# Altium schematic symbol library Connector-Library.SchLib: 14 symbols (part 1 of 2)
Pins are listed as number, name and electrical type; pins without a type are passive.

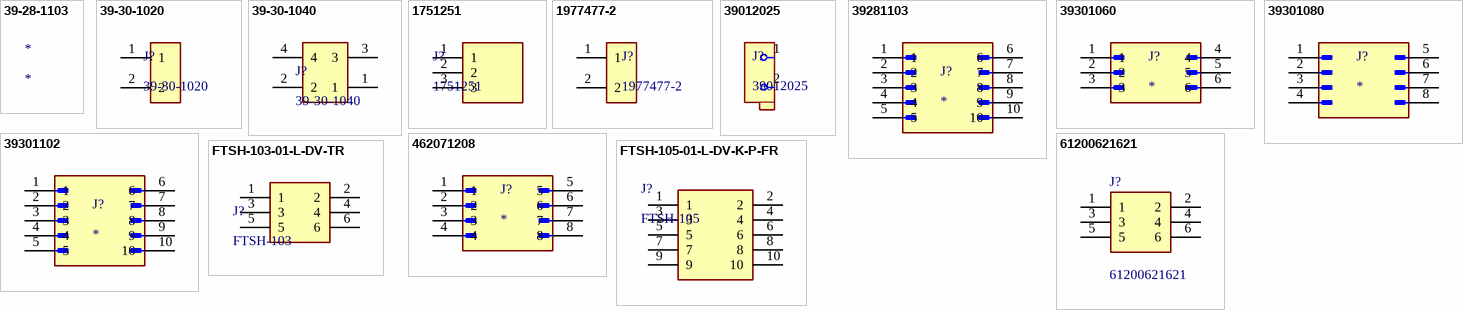
[diagram p0: symbols 39-28-1103 to FTSH-105-01-L-DV-K-P-FR]

## 39-28-1103
designator *
MOLEX 39-28-1103 Header 2 Row 180° w/o PCB Lock 10p 94V-2 Tin Plating w/o Drain Holes; Manufacturer Lifecycle Status: ACTIVE; Approvals: CSA, TUV, UL; Connector Type: Power, Rectangular; Contact Resistance: 10mΩ; Current Rating: 7A; Dielectric Material: Polyamide; Gender: Male; Glow Wire Compliant: Non-compliant; Insulation Resistance: 1GΩ; Max Current Rating: 3A; Max Voltage Rating (DC): 600.6kV; Number of Circuits: 8; Number of Contacts: 10; Operating Force: 6.672N; Pitch: 4.2mm; Plating Thickness: 889nm; Row Spacing: 5.5118mm; Voltage Rating: 600V; Working Voltage: 250V; Supplier: RS; Supplier Part Number: 4841928P; Manufacturer: Molex; Manufacturer Part Number: 39-28-1103; RoHS: Compliant; Category: Headers and Wire Housings; Stock: 2889; China RoHS: Compliant; Color: Natural, Clear; Contact Gender: Male; Contact Material: Brass; Contact Plating: Tin; Country of Origin: PR; Depth: 9.39mm; Flammability Rating: UL94 V-2; Halogen Free: Low Halogen; Height: 13.1mm; Housing Material: Nylon; Lead Free: Lead Free; Lead Pitch: 4.2mm; Length: 101.19mm; Lifecycle Status: Production; Max Operating Temperature: 105°C; Min Operating Temperature: -40°C; Mounting Technology: Through Hole; Pins: 10; Number of Poles: 10; Number of Positions: 10; Number of Rows: 2; Orientation: Vertical; Packaging: Bulk; Plating: Tin; Radiation Hardening: No; REACH SVHC: Yes; Schedule B: 8536694040, 8536694040|8536694040|8536694040|8536694040|8536694040; Terminal Pitch: 4.191mm; Termination: Solder; Voltage Rating (AC): 600V; Voltage Rating (DC): 600V; ComponentLink1URL: https://datasheet.octopart.com:443/0039281103-Molex-datasheet-180777537.pdf?src-supplier=IHS; ComponentLink1Description: https://datasheet.octopart.com:443/0039281103-Molex-datasheet-180777537.pdf?src-supplier=IHS; ComponentLink2URL: https://datasheet.octopart.com:443/39-28-1103-Molex-datasheet-120074126.pdf?src-supplier=IHS; ComponentLink2Description: https://datasheet.octopart.com:443/39-28-1103-Molex-datasheet-120074126.pdf?src-supplier=IHS; ComponentLink3URL: https://datasheet.octopart.com:443/39-28-1103-Molex-datasheet-11519118.pdf?src-supplier=Molex; ComponentLink3Description: https://datasheet.octopart.com:443/39-28-1103-Molex-datasheet-11519118.pdf?src-supplier=Molex; ComponentLink4URL: https://datasheet.octopart.com:443/039281103-Molex-datasheet-8335264.pdf?src-supplier=Upverter; ComponentLink4Description: https://datasheet.octopart.com:443/039281103-Molex-datasheet-8335264.pdf?src-supplier=Upverter; ComponentLink5URL: https://datasheet.octopart.com:443/39-28-1103-Molex-datasheet-13784987.pdf?src-supplier=Sager+Electronics; ComponentLink5Description: https://datasheet.octopart.com:443/39-28-1103-Molex-datasheet-13784987.pdf?src-supplier=Sager+Electronics; ComponentLink6URL: https://datasheet.octopart.com:443/39-28-1103-Molex-datasheet-154749138.pdf?src-supplier=Master+Electronics; ComponentLink6Description: https://datasheet.octopart.com:443/39-28-1103-Molex-datasheet-154749138.pdf?src-supplier=Master+Electronics; ComponentLink7URL: https://datasheet.octopart.com:443/39-28-1103-Molex-datasheet-101582338.pdf?src-supplier=Farnell; ComponentLink7Description: https://datasheet.octopart.com:443/39-28-1103-Molex-datasheet-101582338.pdf?src-supplier=Farnell; ComponentLink8URL: https://datasheet.octopart.com:443/39-28-1103-Molex-datasheet-8486522.pdf?src-supplier=Farnell; ComponentLink8Description: https://datasheet.octopart.com:443/39-28-1103-Molex-datasheet-8486522.pdf?src-supplier=Farnell; ComponentLink9URL: https://datasheet.octopart.com:443/39-28-1103-Molex-datasheet-7626255.pdf?src-supplier=Farnell; ComponentLink9Description: https://datasheet.octopart.com:443/39-28-1103-Molex-datasheet-7626255.pdf?src-supplier=Farnell; ComponentLink10URL: https://datasheet.octopart.com:443/39-28-1103-Molex-datasheet-33002772.pdf?src-supplier=Electro+Sonic; ComponentLink10Description: https://datasheet.octopart.com:443/39-28-1103-Molex-datasheet-33002772.pdf?src-supplier=Electro+Sonic; ComponentLink11URL: https://datasheet.octopart.com:443/39-28-1103-Molex-datasheet-62104106.pdf?src-supplier=Electro+Sonic; ComponentLink11Description: https://datasheet.octopart.com:443/39-28-1103-Molex-datasheet-62104106.pdf?src-supplier=Electro+Sonic; ComponentLink12URL: https://datasheet.octopart.com:443/39-28-1103-Molex-datasheet-27885732.pdf?src-supplier=Electro+Sonic; ComponentLink12Description: https://datasheet.octopart.com:443/39-28-1103-Molex-datasheet-27885732.pdf?src-supplier=Electro+Sonic; ComponentLink13URL: https://datasheet.octopart.com:443/39-28-1103-Molex-datasheet-11879267.pdf?src-supplier=Arrow+Electronics; ComponentLink13Description: https://datasheet.octopart.com:443/39-28-1103-Molex-datasheet-11879267.pdf?src-supplier=Arrow+Electronics; ComponentLink14URL: https://datasheet.octopart.com:443/39-28-1103-Molex-datasheet-140182983.pdf?src-supplier=RS+(Formerly+Allied+Electronics); ComponentLink14Description: https://datasheet.octopart.com:443/39-28-1103-Molex-datasheet-140182983.pdf?src-supplier=RS+(Formerly+Allied+Electronics); ComponentLink15URL: https://datasheet.octopart.com:443/39-28-1103-Molex-datasheet-120148484.pdf?src-supplier=RS+(Formerly+Allied+Electronics); ComponentLink15Description: https://datasheet.octopart.com:443/39-28-1103-Molex-datasheet-120148484.pdf?src-supplier=RS+(Formerly+Allied+Electronics); ComponentLink16URL: https://datasheet.octopart.com:443/39-28-1103-Molex-datasheet-27709973.pdf?src-supplier=RS+(Formerly+Allied+Electronics); ComponentLink16Description: https://datasheet.octopart.com:443/39-28-1103-Molex-datasheet-27709973.pdf?src-supplier=RS+(Formerly+Allied+Electronics); ComponentLink17URL: https://datasheet.octopart.com:443/39-28-1103-Molex-datasheet-9805467.pdf?src-supplier=RS+(Formerly+Allied+Electronics); ComponentLink17Description: https://datasheet.octopart.com:443/39-28-1103-Molex-datasheet-9805467.pdf?src-supplier=RS+(Formerly+Allied+Electronics); ComponentLink18URL: https://datasheet.octopart.com:443/39-28-1103-Molex-datasheet-82184.pdf?src-supplier=RS+(Formerly+Allied+Electronics); ComponentLink18Description: https://datasheet.octopart.com:443/39-28-1103-Molex-datasheet-82184.pdf?src-supplier=RS+(Formerly+Allied+Electronics); ComponentLink19URL: https://datasheet.octopart.com:443/39-28-1103-Molex-datasheet-156091070.pdf?src-supplier=Jameco; ComponentLink19Description: https://datasheet.octopart.com:443/39-28-1103-Molex-datasheet-156091070.pdf?src-supplier=Jameco; ComponentLink20URL: https://datasheet.octopart.com:443/39281103-Molex-datasheet-7831096.pdf?src-supplier=Jameco; ComponentLink20Description: https://datasheet.octopart.com:443/39281103-Molex-datasheet-7831096.pdf?src-supplier=Jameco; ComponentLink21URL: https://datasheet.octopart.com:443/39281103-Molex-datasheet-137316104.pdf?src-supplier=Future+Electronics; ComponentLink21Description: https://datasheet.octopart.com:443/39281103-Molex-datasheet-137316104.pdf?src-supplier=Future+Electronics; ComponentLink22URL: https://datasheet.octopart.com:443/39-28-1103-Molex-datasheet-38190430.pdf?src-supplier=Newark; ComponentLink22Description: https://datasheet.octopart.com:443/39-28-1103-Molex-datasheet-38190430.pdf?src-supplier=Newark; ComponentLink23URL: https://datasheet.octopart.com:443/39-28-1103-Molex-datasheet-21207353.pdf?src-supplier=Newark; ComponentLink23Description: https://datasheet.octopart.com:443/39-28-1103-Molex-datasheet-21207353.pdf?src-supplier=Newark; ComponentLink24URL: https://datasheet.octopart.com:443/39-28-1103-Molex-datasheet-1603.pdf?src-supplier=Newark; ComponentLink24Description: https://datasheet.octopart.com:443/39-28-1103-Molex-datasheet-1603.pdf?src-supplier=Newark; ComponentLink25URL: https://datasheet.octopart.com:443/39-28-1103-Molex-datasheet-10064021.pdf?src-supplier=element14; ComponentLink25Description: https://datasheet.octopart.com:443/39-28-1103-Molex-datasheet-10064021.pdf?src-supplier=element14; ComponentLink26URL: https://datasheet.octopart.com:443/39-28-1103-Molex-datasheet-141243.pdf?src-supplier=DigiKey; ComponentLink26Description: https://datasheet.octopart.com:443/39-28-1103-Molex-datasheet-141243.pdf?src-supplier=DigiKey; ComponentLink27URL: https://datasheet.octopart.com:443/39-28-1103-Molex-datasheet-18519.pdf?src-supplier=TME; ComponentLink27Description: https://datasheet.octopart.com:443/39-28-1103-Molex-datasheet-18519.pdf?src-supplier=TME; ComponentLink28URL: http://sigma.octopart.com:80/16310472/rohs_statement/Molex-39-28-1103.pdf?src-supplier=Compliance+Statements; ComponentLink28Description: http://sigma.octopart.com:80/16310472/rohs_statement/Molex-39-28-1103.pdf?src-supplier=Compliance+Statements; ComponentLink29URL: http://sigma.octopart.com:80/conflict_mineral_statement/Molex-company-72.pdf?src-supplier=Compliance+Statements; ComponentLink29Description: http://sigma.octopart.com:80/conflict_mineral_statement/Molex-company-72.pdf?src-supplier=Compliance+Statements; ComponentLink30URL: http://sigma.octopart.com:80/rohs_statement/Molex-company-73.pdf?src-supplier=Compliance+Statements; ComponentLink30Description: http://sigma.octopart.com:80/rohs_statement/Molex-company-73.pdf?src-supplier=Compliance+Statements; ComponentLink31URL: http://sigma.octopart.com:80/reach_statement/Molex-company-74.pdf?src-supplier=Compliance+Statements; ComponentLink31Description: http://sigma.octopart.com:80/reach_statement/Molex-company-74.pdf?src-supplier=Compliance+Statements

## 39-30-1020
designator J?
Pin Header, Power, 2 Rows, 2 Contacts, Through Hole Right Angle, Mini-Fit Jr. 5569; Manufacturer: Molex; Manufacturer Lifecycle Status: ACTIVE; Approvals: CSA, TUV, UL; Connector Type: Power, Rectangular; Contact Resistance: 10mΩ; Current Rating: 9A; Dielectric Material: Polyamide; Gender: Male; Glow Wire Compliant: Non-compliant; Insulation Resistance: 1GΩ; Number of Circuits: 2; Pitch: 4.2mm; Plating Thickness: 2.54µm; Voltage Rating: 600V; Supplier: RS; Supplier Part Number: 5109837P; Manufacturer Part Number: 39-30-1020; RoHS: Compliant; Category: Headers and Wire Housings; Stock: 13118; China RoHS: Compliant; Color: Natural; Contact Gender: Male; Contact Material: Brass; Contact Plating: Tin; Country of Origin: US; Depth: 13.38mm; ELV: Compliant; Flammability Rating: UL94 V-2; Halogen Free: Low Halogen; Height: 14.76mm; Housing Material: Nylon; Lead Free: Lead Free; Lead Pitch: 4.2mm; Length: 36.07mm; Lifecycle Status: Production; Material: Nylon; Max Operating Temperature: 105°C; Min Operating Temperature: -40°C; Mounting Technology: PCB, Through Hole; Number of Contacts: 2; Pins: 2; Number of Poles: 2; Number of Positions: 2; Number of Rows: 2; Orientation: Right Angle; Radiation Hardening: No; REACH SVHC: Yes; Row Spacing: 4.2mm; Schedule B: 8536694040, 8536694040|8536694040, 8536694040|8536694040|8536694040, 8536694040|8536694040|8536694040|8536694040; Termination: Solder; Voltage Rating (AC): 600V; Voltage Rating (DC): 600V; Working Voltage: 600V; ComponentLink1URL: https://datasheet.octopart.com:443/39-30-1020-Molex-datasheet-120074128.pdf?src-supplier=IHS; ComponentLink1Description: https://datasheet.octopart.com:443/39-30-1020-Molex-datasheet-120074128.pdf?src-supplier=IHS; ComponentLink2URL: https://datasheet.octopart.com:443/039301020-Molex-datasheet-8338717.pdf?src-supplier=Upverter; ComponentLink2Description: https://datasheet.octopart.com:443/039301020-Molex-datasheet-8338717.pdf?src-supplier=Upverter; ComponentLink3URL: https://datasheet.octopart.com:443/39-30-1020-Molex-datasheet-13785309.pdf?src-supplier=Molex; ComponentLink3Description: https://datasheet.octopart.com:443/39-30-1020-Molex-datasheet-13785309.pdf?src-supplier=Molex; ComponentLink4URL: https://sigma.octopart.com:443/15644801/technical_drawing/Molex-39-30-1020.pdf?src-supplier=Molex; ComponentLink4Description: https://sigma.octopart.com:443/15644801/technical_drawing/Molex-39-30-1020.pdf?src-supplier=Molex; ComponentLink5URL: https://datasheet.octopart.com:443/39-30-1020-Molex-datasheet-36854730.pdf?src-supplier=Farnell; ComponentLink5Description: https://datasheet.octopart.com:443/39-30-1020-Molex-datasheet-36854730.pdf?src-supplier=Farnell; ComponentLink6URL: https://datasheet.octopart.com:443/39-30-1020-Molex-datasheet-101582405.pdf?src-supplier=Farnell; ComponentLink6Description: https://datasheet.octopart.com:443/39-30-1020-Molex-datasheet-101582405.pdf?src-supplier=Farnell; ComponentLink7URL: https://datasheet.octopart.com:443/39-30-1020-..-Molex-datasheet-81470918.pdf?src-supplier=Farnell; ComponentLink7Description: https://datasheet.octopart.com:443/39-30-1020-..-Molex-datasheet-81470918.pdf?src-supplier=Farnell; ComponentLink8URL: https://datasheet.octopart.com:443/39-30-1020-Molex-datasheet-14711183.pdf?src-supplier=Farnell; ComponentLink8Description: https://datasheet.octopart.com:443/39-30-1020-Molex-datasheet-14711183.pdf?src-supplier=Farnell; ComponentLink9URL: https://datasheet.octopart.com:443/39-30-1020-Molex-datasheet-10541087.pdf?src-supplier=Farnell; ComponentLink9Description: https://datasheet.octopart.com:443/39-30-1020-Molex-datasheet-10541087.pdf?src-supplier=Farnell; ComponentLink10URL: https://datasheet.octopart.com:443/39301020-Molex-datasheet-514359.pdf?src-supplier=Farnell; ComponentLink10Description: https://datasheet.octopart.com:443/39301020-Molex-datasheet-514359.pdf?src-supplier=Farnell; ComponentLink11URL: https://datasheet.octopart.com:443/39-30-1020-Molex-datasheet-154749331.pdf?src-supplier=Master+Electronics; ComponentLink11Description: https://datasheet.octopart.com:443/39-30-1020-Molex-datasheet-154749331.pdf?src-supplier=Master+Electronics; ComponentLink12URL: https://datasheet.octopart.com:443/39-30-1020-Molex-datasheet-21827347.pdf?src-supplier=Electro+Sonic; ComponentLink12Description: https://datasheet.octopart.com:443/39-30-1020-Molex-datasheet-21827347.pdf?src-supplier=Electro+Sonic; ComponentLink13URL: https://datasheet.octopart.com:443/39-30-1020-Molex-datasheet-62104194.pdf?src-supplier=Electro+Sonic; ComponentLink13Description: https://datasheet.octopart.com:443/39-30-1020-Molex-datasheet-62104194.pdf?src-supplier=Electro+Sonic; ComponentLink14URL: https://datasheet.octopart.com:443/39-30-1020-Molex-datasheet-140183168.pdf?src-supplier=RS+(Formerly+Allied+Electronics); ComponentLink14Description: https://datasheet.octopart.com:443/39-30-1020-Molex-datasheet-140183168.pdf?src-supplier=RS+(Formerly+Allied+Electronics); ComponentLink15URL: https://datasheet.octopart.com:443/39-30-1020-Molex-datasheet-120148721.pdf?src-supplier=RS+(Formerly+Allied+Electronics); ComponentLink15Description: https://datasheet.octopart.com:443/39-30-1020-Molex-datasheet-120148721.pdf?src-supplier=RS+(Formerly+Allied+Electronics); ComponentLink16URL: https://datasheet.octopart.com:443/39-30-1020-Molex-datasheet-34442213.pdf?src-supplier=RS+(Formerly+Allied+Electronics); ComponentLink16Description: https://datasheet.octopart.com:443/39-30-1020-Molex-datasheet-34442213.pdf?src-supplier=RS+(Formerly+Allied+Electronics); ComponentLink17URL: https://datasheet.octopart.com:443/39-30-1020-Molex-datasheet-9997016.pdf?src-supplier=RS+(Formerly+Allied+Electronics); ComponentLink17Description: https://datasheet.octopart.com:443/39-30-1020-Molex-datasheet-9997016.pdf?src-supplier=RS+(Formerly+Allied+Electronics); ComponentLink18URL: https://datasheet.octopart.com:443/39-30-1020-Molex-datasheet-46140.pdf?src-supplier=RS+(Formerly+Allied+Electronics); ComponentLink18Description: https://datasheet.octopart.com:443/39-30-1020-Molex-datasheet-46140.pdf?src-supplier=RS+(Formerly+Allied+Electronics); ComponentLink19URL: https://datasheet.octopart.com:443/39301020-Molex-datasheet-82994803.pdf?src-supplier=Newark; ComponentLink19Description: https://datasheet.octopart.com:443/39301020-Molex-datasheet-82994803.pdf?src-supplier=Newark; ComponentLink20URL: https://datasheet.octopart.com:443/39-30-1020-Molex-datasheet-33002868.pdf?src-supplier=Newark; ComponentLink20Description: https://datasheet.octopart.com:443/39-30-1020-Molex-datasheet-33002868.pdf?src-supplier=Newark; ComponentLink21URL: https://datasheet.octopart.com:443/39-30-1020-Molex-datasheet-21207481.pdf?src-supplier=Newark; ComponentLink21Description: https://datasheet.octopart.com:443/39-30-1020-Molex-datasheet-21207481.pdf?src-supplier=Newark; ComponentLink22URL: https://datasheet.octopart.com:443/39-30-1020-Molex-datasheet-2405.pdf?src-supplier=Newark; ComponentLink22Description: https://datasheet.octopart.com:443/39-30-1020-Molex-datasheet-2405.pdf?src-supplier=Newark; ComponentLink23URL: https://datasheet.octopart.com:443/39301020-Molex-datasheet-137316104.pdf?src-supplier=Future+Electronics; ComponentLink23Description: https://datasheet.octopart.com:443/39301020-Molex-datasheet-137316104.pdf?src-supplier=Future+Electronics; ComponentLink24URL: https://datasheet.octopart.com:443/39-30-1020-Molex-datasheet-21395541.pdf?src-supplier=TME; ComponentLink24Description: https://datasheet.octopart.com:443/39-30-1020-Molex-datasheet-21395541.pdf?src-supplier=TME; ComponentLink25URL: https://datasheet.octopart.com:443/39301020-Molex-datasheet-7600579.pdf?src-supplier=Jameco; ComponentLink25Description: https://datasheet.octopart.com:443/39301020-Molex-datasheet-7600579.pdf?src-supplier=Jameco; ComponentLink26URL: https://datasheet.octopart.com:443/39-30-1020-Molex-datasheet-46912895.pdf?src-supplier=Jameco; ComponentLink26Description: https://datasheet.octopart.com:443/39-30-1020-Molex-datasheet-46912895.pdf?src-supplier=Jameco; ComponentLink27URL: https://datasheet.octopart.com:443/39-30-1020-Molex-datasheet-131607.pdf?src-supplier=DigiKey; ComponentLink27Description: https://datasheet.octopart.com:443/39-30-1020-Molex-datasheet-131607.pdf?src-supplier=DigiKey; ComponentLink28URL: http://sigma.octopart.com:80/15645372/rohs_certificate/Molex-39-30-1020.pdf?src-supplier=Compliance+Statements; ComponentLink28Description: http://sigma.octopart.com:80/15645372/rohs_certificate/Molex-39-30-1020.pdf?src-supplier=Compliance+Statements; ComponentLink29URL: http://sigma.octopart.com:80/conflict_mineral_statement/Molex-company-72.pdf?src-supplier=Compliance+Statements; ComponentLink29Description: http://sigma.octopart.com:80/conflict_mineral_statement/Molex-company-72.pdf?src-supplier=Compliance+Statements; ComponentLink30URL: http://sigma.octopart.com:80/rohs_statement/Molex-company-73.pdf?src-supplier=Compliance+Statements; ComponentLink30Description: http://sigma.octopart.com:80/rohs_statement/Molex-company-73.pdf?src-supplier=Compliance+Statements; ComponentLink31URL: http://sigma.octopart.com:80/reach_statement/Molex-company-74.pdf?src-supplier=Compliance+Statements; ComponentLink31Description: http://sigma.octopart.com:80/reach_statement/Molex-company-74.pdf?src-supplier=Compliance+Statements
footprint 39-30-1020 (Footprint not found)
pins: 1, 2

## 39-30-1040
designator J?
Molex Connector 2x2 4.2mm Solder Right Angle Thru-Hole Tray; Manufacturer Lifecycle Status: ACTIVE; Approvals: CSA, TUV, UL; Connector Type: Power, Rectangular; Contact Resistance: 10mΩ; Current Rating: 9A; Gender: Male; Glow Wire Compliant: Non-compliant; Insulation Resistance: 1GΩ; Number of Circuits: 3; Number of Contacts: 4; Plating Thickness: 2.54µm; Ratings: CSA, TUV; Voltage Rating: 600V; Supplier: DigiKey; Supplier Part Number: WM1352-ND; Manufacturer: Molex; Manufacturer Part Number: 39-30-1040; RoHS: Compliant; Category: Headers and Wire Housings; Stock: 5632; Pricing: 1=0,85, 10=0,72, 100=0,6122, 500=0,54636, 4000=0,47179, 8000=0,44928, 12000=0,43662 (USD); China RoHS: Compliant; Color: Natural; Contact Gender: Male; Contact Material: Brass; Contact Plating: Tin; Country of Origin: US; Depth: 19.79mm; Export Control Classification Number (ECCN) Code: EAR99; ELV: Compliant; Flammability Rating: UL94 V-2; Halogen Free: Low Halogen; Height: 13.38mm; Housing Material: Nylon; Harmonized Tariff Schedule (HTS) Code: 8536.69.40.30; Introduction Date: 1994-12-01; Lead Free: Lead Free; Lead Pitch: 4.2mm; Length: 21.08mm; Lifecycle Status: Production; Material: Nylon; Max Operating Temperature: 105°C; Min Operating Temperature: -40°C; Mounting Technology: PCB, Through Hole; Pins: 5; Number of Poles: 4; Number of Positions: 4; Number of Rows: 1; Orientation: Right Angle, Vertical; Packaging: Bulk; Pitch: 4.2mm; Radiation Hardening: No; REACH SVHC: Yes; Row Spacing: 4.2mm; Schedule B: 8536694040, 8536694040|8536694040, 8536694040|8536694040|8536694040, 8536694040|8536694040|8536694040|8536694040; Termination: Solder; Voltage Rating (AC): 600V; Voltage Rating (DC): 600V; Working Voltage: 600V; ComponentLink1URL: https://datasheet.octopart.com:443/39-30-1040-Molex-datasheet-138897372.pdf?src-supplier=Upverter; ComponentLink1Description: https://datasheet.octopart.com:443/39-30-1040-Molex-datasheet-138897372.pdf?src-supplier=Upverter; ComponentLink2URL: https://datasheet.octopart.com:443/039301040-Molex-datasheet-8338717.pdf?src-supplier=Upverter; ComponentLink2Description: https://datasheet.octopart.com:443/039301040-Molex-datasheet-8338717.pdf?src-supplier=Upverter; ComponentLink3URL: https://sigma.octopart.com:443/120074128/technical_drawing/Molex-39-30-1040.pdf?src-supplier=IHS; ComponentLink3Description: https://sigma.octopart.com:443/120074128/technical_drawing/Molex-39-30-1040.pdf?src-supplier=IHS; ComponentLink4URL: https://datasheet.octopart.com:443/39-30-1040-Molex-datasheet-12525736.pdf?src-supplier=Molex; ComponentLink4Description: https://datasheet.octopart.com:443/39-30-1040-Molex-datasheet-12525736.pdf?src-supplier=Molex; ComponentLink5URL: https://sigma.octopart.com:443/15644801/technical_drawing/Molex-39-30-1040.pdf?src-supplier=Molex; ComponentLink5Description: https://sigma.octopart.com:443/15644801/technical_drawing/Molex-39-30-1040.pdf?src-supplier=Molex; ComponentLink6URL: https://datasheet.octopart.com:443/39-30-1040-Molex-datasheet-193097287.pdf?src-supplier=JRH+Electronics; ComponentLink6Description: https://datasheet.octopart.com:443/39-30-1040-Molex-datasheet-193097287.pdf?src-supplier=JRH+Electronics; ComponentLink7URL: https://datasheet.octopart.com:443/39-30-1040-Molex-datasheet-154749335.pdf?src-supplier=Master+Electronics; ComponentLink7Description: https://datasheet.octopart.com:443/39-30-1040-Molex-datasheet-154749335.pdf?src-supplier=Master+Electronics; ComponentLink8URL: https://datasheet.octopart.com:443/39-30-1040-Molex-datasheet-101582408.pdf?src-supplier=Farnell; ComponentLink8Description: https://datasheet.octopart.com:443/39-30-1040-Molex-datasheet-101582408.pdf?src-supplier=Farnell; ComponentLink9URL: https://datasheet.octopart.com:443/39-30-1040-Molex-datasheet-13726788.pdf?src-supplier=Farnell; ComponentLink9Description: https://datasheet.octopart.com:443/39-30-1040-Molex-datasheet-13726788.pdf?src-supplier=Farnell; ComponentLink10URL: https://datasheet.octopart.com:443/39-30-1040-Molex-datasheet-8451564.pdf?src-supplier=Farnell; ComponentLink10Description: https://datasheet.octopart.com:443/39-30-1040-Molex-datasheet-8451564.pdf?src-supplier=Farnell; ComponentLink11URL: https://datasheet.octopart.com:443/39-30-1040-Molex-datasheet-8377082.pdf?src-supplier=Farnell; ComponentLink11Description: https://datasheet.octopart.com:443/39-30-1040-Molex-datasheet-8377082.pdf?src-supplier=Farnell; ComponentLink12URL: https://datasheet.octopart.com:443/39-30-1040-Molex-datasheet-8338264.pdf?src-supplier=Farnell; ComponentLink12Description: https://datasheet.octopart.com:443/39-30-1040-Molex-datasheet-8338264.pdf?src-supplier=Farnell; ComponentLink13URL: https://datasheet.octopart.com:443/39-30-1040-Molex-datasheet-21539009.pdf?src-supplier=Electro+Sonic; ComponentLink13Description: https://datasheet.octopart.com:443/39-30-1040-Molex-datasheet-21539009.pdf?src-supplier=Electro+Sonic; ComponentLink14URL: https://datasheet.octopart.com:443/39-30-1040-Molex-datasheet-62104196.pdf?src-supplier=Electro+Sonic; ComponentLink14Description: https://datasheet.octopart.com:443/39-30-1040-Molex-datasheet-62104196.pdf?src-supplier=Electro+Sonic; ComponentLink15URL: https://datasheet.octopart.com:443/39-30-1040-Molex-datasheet-37170052.pdf?src-supplier=Electro+Sonic; ComponentLink15Description: https://datasheet.octopart.com:443/39-30-1040-Molex-datasheet-37170052.pdf?src-supplier=Electro+Sonic; ComponentLink16URL: https://datasheet.octopart.com:443/39-30-1040-Molex-datasheet-140183172.pdf?src-supplier=RS+(Formerly+Allied+Electronics); ComponentLink16Description: https://datasheet.octopart.com:443/39-30-1040-Molex-datasheet-140183172.pdf?src-supplier=RS+(Formerly+Allied+Electronics); ComponentLink17URL: https://datasheet.octopart.com:443/39-30-1040-Molex-datasheet-120148725.pdf?src-supplier=RS+(Formerly+Allied+Electronics); ComponentLink17Description: https://datasheet.octopart.com:443/39-30-1040-Molex-datasheet-120148725.pdf?src-supplier=RS+(Formerly+Allied+Electronics); ComponentLink18URL: https://datasheet.octopart.com:443/39-30-1040-Molex-datasheet-34442213.pdf?src-supplier=RS+(Formerly+Allied+Electronics); ComponentLink18Description: https://datasheet.octopart.com:443/39-30-1040-Molex-datasheet-34442213.pdf?src-supplier=RS+(Formerly+Allied+Electronics); ComponentLink19URL: https://datasheet.octopart.com:443/39-30-1040-Molex-datasheet-9746676.pdf?src-supplier=RS+(Formerly+Allied+Electronics); ComponentLink19Description: https://datasheet.octopart.com:443/39-30-1040-Molex-datasheet-9746676.pdf?src-supplier=RS+(Formerly+Allied+Electronics); ComponentLink20URL: https://datasheet.octopart.com:443/39-30-1040-Molex-datasheet-156091076.pdf?src-supplier=Jameco; ComponentLink20Description: https://datasheet.octopart.com:443/39-30-1040-Molex-datasheet-156091076.pdf?src-supplier=Jameco; ComponentLink21URL: https://datasheet.octopart.com:443/39301040-Molex-datasheet-7831653.pdf?src-supplier=Jameco; ComponentLink21Description: https://datasheet.octopart.com:443/39301040-Molex-datasheet-7831653.pdf?src-supplier=Jameco; ComponentLink22URL: https://datasheet.octopart.com:443/39-30-1040-Molex-datasheet-7265007.pdf?src-supplier=Jameco; ComponentLink22Description: https://datasheet.octopart.com:443/39-30-1040-Molex-datasheet-7265007.pdf?src-supplier=Jameco; ComponentLink23URL: https://datasheet.octopart.com:443/39-30-1040-Molex-datasheet-33002872.pdf?src-supplier=Newark; ComponentLink23Description: https://datasheet.octopart.com:443/39-30-1040-Molex-datasheet-33002872.pdf?src-supplier=Newark; ComponentLink24URL: https://datasheet.octopart.com:443/39-30-1040-Molex-datasheet-21207484.pdf?src-supplier=Newark; ComponentLink24Description: https://datasheet.octopart.com:443/39-30-1040-Molex-datasheet-21207484.pdf?src-supplier=Newark; ComponentLink25URL: https://datasheet.octopart.com:443/39-30-1040-Molex-datasheet-2405.pdf?src-supplier=Newark; ComponentLink25Description: https://datasheet.octopart.com:443/39-30-1040-Molex-datasheet-2405.pdf?src-supplier=Newark; ComponentLink26URL: https://datasheet.octopart.com:443/39-30-1040-Molex-datasheet-21395541.pdf?src-supplier=TME; ComponentLink26Description: https://datasheet.octopart.com:443/39-30-1040-Molex-datasheet-21395541.pdf?src-supplier=TME; ComponentLink27URL: https://datasheet.octopart.com:443/39-30-1040-Molex-datasheet-134310.pdf?src-supplier=DigiKey; ComponentLink27Description: https://datasheet.octopart.com:443/39-30-1040-Molex-datasheet-134310.pdf?src-supplier=DigiKey; ComponentLink28URL: http://sigma.octopart.com:80/15645375/rohs_certificate/Molex-39-30-1040.pdf?src-supplier=Compliance+Statements; ComponentLink28Description: http://sigma.octopart.com:80/15645375/rohs_certificate/Molex-39-30-1040.pdf?src-supplier=Compliance+Statements; ComponentLink29URL: http://sigma.octopart.com:80/reach_statement/Molex-company-74.pdf?src-supplier=Compliance+Statements; ComponentLink29Description: http://sigma.octopart.com:80/reach_statement/Molex-company-74.pdf?src-supplier=Compliance+Statements; ComponentLink30URL: http://sigma.octopart.com:80/rohs_statement/Molex-company-73.pdf?src-supplier=Compliance+Statements; ComponentLink30Description: http://sigma.octopart.com:80/rohs_statement/Molex-company-73.pdf?src-supplier=Compliance+Statements; ComponentLink31URL: http://sigma.octopart.com:80/conflict_mineral_statement/Molex-company-72.pdf?src-supplier=Compliance+Statements; ComponentLink31Description: http://sigma.octopart.com:80/conflict_mineral_statement/Molex-company-72.pdf?src-supplier=Compliance+Statements
footprint 39-30-1040
pins: 1, 2, 3, 4

## 1751251
designator J?
Barrier Strip Terminal Block, 10A, 1mm2, 1 Row(s), 1 Deck(s); Manufacturer: Phoenix Contact; Fastening Method: SCREW; Number of Decks: 1; Number of Ways: 3; Voltage Rating: 160V; Wire/Cable Gauge: 16AWG; Safety Approval: UL; Supplier: Rs; Supplier Part Number: 8024843; Manufacturer Part Number: 1751251; RoHS: Yes; Category: Terminal Blocks; Stock: 716; Mounting Technology: Board; Number of Rows: 1; Current Rating: 10A; Terminal and Terminal Block Type: BARRIER STRIP TERMINAL BLOCK; Wire Cross Section: 1mm2; RoHS Compliant: Yes; Reach SVHC Compliant: Yes; ComponentLink1URL: https://www.phoenixcontact.com:443/online/portal/us?uri=pxc-oc-itemdetail%3apid%3d1751251&library=usen&pcck=P-11-01-05&tab=1&src-supplier=IHS+Markit; ComponentLink1Description: https://www.phoenixcontact.com:443/online/portal/us?uri=pxc-oc-itemdetail%3apid%3d1751251&library=usen&pcck=P-11-01-05&tab=1&src-supplier=IHS+Markit; ComponentLink2URL: https://datasheet.ciiva.com/16046/1751251-16046279.pdf?src-supplier=Onlinecomponents.com; ComponentLink2Description: https://datasheet.ciiva.com/16046/1751251-16046279.pdf?src-supplier=Onlinecomponents.com; ComponentLink3URL: https://datasheet.ciiva.com/6745/1751251-6745524.pdf?src-supplier=Digikey; ComponentLink3Description: https://datasheet.ciiva.com/6745/1751251-6745524.pdf?src-supplier=Digikey; ComponentLink4URL: https://datasheet.ciiva.com/29226/774163-da-01-en-printklemme-1751251-250-st-29226773.pdf?src-supplier=Conrad; ComponentLink4Description: https://datasheet.ciiva.com/29226/774163-da-01-en-printklemme-1751251-250-st-29226773.pdf?src-supplier=Conrad
footprint 1751251
pins: 1, 2, 3

## 1977477-2
designator J?
Barrier Screw Terminal Block; Manufacturer: TE Connectivity; Supplier: Farnell; Supplier Part Number: 4427801; Manufacturer Part Number: 1977477-2; RoHS: Yes; Category: Terminal Blocks; Stock: 392; Manufacturer Series: 1977477; Terminal and Terminal Block Type: BARRIER STRIP TERMINAL BLOCK; Reach SVHC Compliant: Yes; RoHS Compliant: Yes; ComponentLink1URL: https://www.te.com:443/usa-en/product-1977477-2.html?src-supplier=IHS+Markit; ComponentLink1Description: https://www.te.com:443/usa-en/product-1977477-2.html?src-supplier=IHS+Markit; ComponentLink2URL: https://datasheet.ciiva.com/776/eng-cd-1977477-b1-776573.pdf?src-supplier=Digikey; ComponentLink2Description: https://datasheet.ciiva.com/776/eng-cd-1977477-b1-776573.pdf?src-supplier=Digikey
footprint 19774772
pins: 1, 2

## 39012025
designator J?  (graphical)
Molex Connector 2x1 (bump form snap side); Supplier: Rs; Supplier Part Number: 6795763P; Manufacturer: Molex; Manufacturer Part Number: 39012025; RoHS: No; Stock: 32920; ComponentLink1URL: https://datasheet.octopart.com/39-01-2025-Molex-datasheet-10054641.pdf?src-supplier=TME; ComponentLink1Description: https://datasheet.octopart.com/39-01-2025-Molex-datasheet-10054641.pdf?src-supplier=TME
footprint 39012025
pins: 1, 2

## 39281103
designator J?
Connector Header Through Hole 10 position 0.165in (4.20mm); MP: 39281103; Value: *; Package: None; Price: None; Availability: Unavailable
footprint 39281103
pins: 1, 2, 3, 4, 5, 6, 7, 8, 9, 10

## 39301060
designator J?
Mini-Fit Jr. Through Hole PCB Header, Right Angle, 6 Contacts, 2 Rows, 4.2mm Pitch; Manufacturer: Molex; Manufacturer Lifecycle Status: ACTIVE; MP: 39301060; Approvals: CSA, TUV, UL; Connector Type: Power, Rectangular; Contact Resistance: 10mΩ; Current Rating: 8A; Gender: Male; Glow Wire Compliant: Non-compliant; Insulation Resistance: 1GΩ; Max Voltage Rating (AC): 600V; Number of Circuits: 4; Number of Contacts: 6; Number of Lines: 2; Plating Thickness: 2.54µm; Row Spacing: 5.5mm; Test Voltage: 1.5kV; Price: None; Value: *; Availability: Unavailable; Package: None; Supplier: RS; Supplier Part Number: 5109859P; Manufacturer Part Number: 39-30-1060; RoHS: Compliant; Category: Headers and Wire Housings; Stock: 3490; China RoHS: Compliant; Color: Natural; Contact Gender: Male; Contact Material: Brass; Contact Plating: Tin; Country of Origin: US; Depth: 12.8mm; ELV: Compliant; Flammability Rating: UL94 V-2; Halogen Free: Low Halogen; Height: 11.65mm; Housing Color: Natural; Housing Material: Nylon; Lead Free: Lead Free; Lead Pitch: 4.2mm; Length: 13.8mm; Lifecycle Status: Production; Material: Nylon; Max Current Rating: 8A; Max Operating Temperature: 105°C; Min Operating Temperature: -40°C; Mounting Technology: PCB, Through Hole; Pins: 6; Number of Poles: 6; Number of Positions: 6; Number of Rows: 1; Orientation: Right Angle, Vertical; Packaging: Bulk; Pitch: 4.2mm; Radiation Hardening: No; REACH SVHC: Yes; Schedule B: 8536694040, 8536694040|8536694040|8536694040|8536694040|8536694040|8536694040|8536694040|8536694040|8536694040|8536694040|8536694040|8536694040|8536694040|8536694040|8536694040|8536694040|8536694040|8536694040|8536694040|8536694040|8536694040|8536694040|8536694040|85; Termination: Solder; Voltage Rating: 600V; Voltage Rating (AC): 600V; Voltage Rating (DC): 600V; Working Voltage: 600V; ComponentLink1URL: https://datasheet.octopart.com:443/39-30-1060-Molex-datasheet-120074128.pdf?src-supplier=Farnell; ComponentLink1Description: https://datasheet.octopart.com:443/39-30-1060-Molex-datasheet-120074128.pdf?src-supplier=Farnell; ComponentLink2URL: https://datasheet.octopart.com:443/39-30-1060-Molex-datasheet-101582409.pdf?src-supplier=Farnell; ComponentLink2Description: https://datasheet.octopart.com:443/39-30-1060-Molex-datasheet-101582409.pdf?src-supplier=Farnell; ComponentLink3URL: https://datasheet.octopart.com:443/39-30-1060-Molex-datasheet-14359237.pdf?src-supplier=Farnell; ComponentLink3Description: https://datasheet.octopart.com:443/39-30-1060-Molex-datasheet-14359237.pdf?src-supplier=Farnell; ComponentLink4URL: https://datasheet.octopart.com:443/39-30-1060-Molex-datasheet-8451564.pdf?src-supplier=Farnell; ComponentLink4Description: https://datasheet.octopart.com:443/39-30-1060-Molex-datasheet-8451564.pdf?src-supplier=Farnell; ComponentLink5URL: https://datasheet.octopart.com:443/39-30-1060-Molex-datasheet-8377082.pdf?src-supplier=Farnell; ComponentLink5Description: https://datasheet.octopart.com:443/39-30-1060-Molex-datasheet-8377082.pdf?src-supplier=Farnell; ComponentLink6URL: https://datasheet.octopart.com:443/39-30-1060-Molex-datasheet-8338264.pdf?src-supplier=Farnell; ComponentLink6Description: https://datasheet.octopart.com:443/39-30-1060-Molex-datasheet-8338264.pdf?src-supplier=Farnell; ComponentLink7URL: https://datasheet.octopart.com:443/039301060-Molex-datasheet-8338717.pdf?src-supplier=Upverter; ComponentLink7Description: https://datasheet.octopart.com:443/039301060-Molex-datasheet-8338717.pdf?src-supplier=Upverter; ComponentLink8URL: https://datasheet.octopart.com:443/39-30-1060-Molex-datasheet-13785479.pdf?src-supplier=Sager+Electronics; ComponentLink8Description: https://datasheet.octopart.com:443/39-30-1060-Molex-datasheet-13785479.pdf?src-supplier=Sager+Electronics; ComponentLink9URL: https://sigma.octopart.com:443/15644801/technical_drawing/Molex-39-30-1060.pdf?src-supplier=Molex; ComponentLink9Description: https://sigma.octopart.com:443/15644801/technical_drawing/Molex-39-30-1060.pdf?src-supplier=Molex; ComponentLink10URL: https://datasheet.octopart.com:443/39-30-1060-Molex-datasheet-154749339.pdf?src-supplier=Master+Electronics; ComponentLink10Description: https://datasheet.octopart.com:443/39-30-1060-Molex-datasheet-154749339.pdf?src-supplier=Master+Electronics; ComponentLink11URL: https://datasheet.octopart.com:443/39-30-1060-Molex-datasheet-34205327.pdf?src-supplier=Electro+Sonic; ComponentLink11Description: https://datasheet.octopart.com:443/39-30-1060-Molex-datasheet-34205327.pdf?src-supplier=Electro+Sonic; ComponentLink12URL: https://datasheet.octopart.com:443/39-30-1060-Molex-datasheet-62104200.pdf?src-supplier=Electro+Sonic; ComponentLink12Description: https://datasheet.octopart.com:443/39-30-1060-Molex-datasheet-62104200.pdf?src-supplier=Electro+Sonic; ComponentLink13URL: https://datasheet.octopart.com:443/39-30-1060-Molex-datasheet-23709672.pdf?src-supplier=Electro+Sonic; ComponentLink13Description: https://datasheet.octopart.com:443/39-30-1060-Molex-datasheet-23709672.pdf?src-supplier=Electro+Sonic; ComponentLink14URL: https://datasheet.octopart.com:443/39-30-1060-Molex-datasheet-140183176.pdf?src-supplier=RS+(Formerly+Allied+Electronics); ComponentLink14Description: https://datasheet.octopart.com:443/39-30-1060-Molex-datasheet-140183176.pdf?src-supplier=RS+(Formerly+Allied+Electronics); ComponentLink15URL: https://datasheet.octopart.com:443/39-30-1060-Molex-datasheet-120148730.pdf?src-supplier=RS+(Formerly+Allied+Electronics); ComponentLink15Description: https://datasheet.octopart.com:443/39-30-1060-Molex-datasheet-120148730.pdf?src-supplier=RS+(Formerly+Allied+Electronics); ComponentLink16URL: https://datasheet.octopart.com:443/39-30-1060-Molex-datasheet-34442213.pdf?src-supplier=RS+(Formerly+Allied+Electronics); ComponentLink16Description: https://datasheet.octopart.com:443/39-30-1060-Molex-datasheet-34442213.pdf?src-supplier=RS+(Formerly+Allied+Electronics); ComponentLink17URL: https://datasheet.octopart.com:443/39-30-1060-Molex-datasheet-9719424.pdf?src-supplier=RS+(Formerly+Allied+Electronics); ComponentLink17Description: https://datasheet.octopart.com:443/39-30-1060-Molex-datasheet-9719424.pdf?src-supplier=RS+(Formerly+Allied+Electronics); ComponentLink18URL: https://datasheet.octopart.com:443/39-30-1060-Molex-datasheet-72655.pdf?src-supplier=RS+(Formerly+Allied+Electronics); ComponentLink18Description: https://datasheet.octopart.com:443/39-30-1060-Molex-datasheet-72655.pdf?src-supplier=RS+(Formerly+Allied+Electronics); ComponentLink19URL: https://datasheet.octopart.com:443/39-30-1060-Molex-datasheet-166013077.pdf?src-supplier=Jameco; ComponentLink19Description: https://datasheet.octopart.com:443/39-30-1060-Molex-datasheet-166013077.pdf?src-supplier=Jameco; ComponentLink20URL: https://datasheet.octopart.com:443/39301060-Molex-datasheet-8215776.pdf?src-supplier=Jameco; ComponentLink20Description: https://datasheet.octopart.com:443/39301060-Molex-datasheet-8215776.pdf?src-supplier=Jameco; ComponentLink21URL: https://datasheet.octopart.com:443/39-30-1060-Molex-datasheet-33002875.pdf?src-supplier=Newark; ComponentLink21Description: https://datasheet.octopart.com:443/39-30-1060-Molex-datasheet-33002875.pdf?src-supplier=Newark; ComponentLink22URL: https://datasheet.octopart.com:443/39-30-1060-Molex-datasheet-21207487.pdf?src-supplier=Newark; ComponentLink22Description: https://datasheet.octopart.com:443/39-30-1060-Molex-datasheet-21207487.pdf?src-supplier=Newark; ComponentLink23URL: https://datasheet.octopart.com:443/39-30-1060-Molex-datasheet-2405.pdf?src-supplier=Newark; ComponentLink23Description: https://datasheet.octopart.com:443/39-30-1060-Molex-datasheet-2405.pdf?src-supplier=Newark; ComponentLink24URL: https://datasheet.octopart.com:443/39-30-1060-Molex-datasheet-21395541.pdf?src-supplier=TME; ComponentLink24Description: https://datasheet.octopart.com:443/39-30-1060-Molex-datasheet-21395541.pdf?src-supplier=TME; ComponentLink25URL: https://datasheet.octopart.com:443/0039301060-Molex-datasheet-11554567.pdf?src-supplier=Arrow+Electronics; ComponentLink25Description: https://datasheet.octopart.com:443/0039301060-Molex-datasheet-11554567.pdf?src-supplier=Arrow+Electronics; ComponentLink26URL: https://datasheet.octopart.com:443/39-30-1060-Molex-datasheet-8361750.pdf?src-supplier=Verical; ComponentLink26Description: https://datasheet.octopart.com:443/39-30-1060-Molex-datasheet-8361750.pdf?src-supplier=Verical; ComponentLink27URL: https://datasheet.octopart.com:443/39-30-1060-Molex-datasheet-129274.pdf?src-supplier=DigiKey; ComponentLink27Description: https://datasheet.octopart.com:443/39-30-1060-Molex-datasheet-129274.pdf?src-supplier=DigiKey; ComponentLink28URL: http://sigma.octopart.com:80/15645378/rohs_certificate/Molex-39-30-1060.pdf?src-supplier=Compliance+Statements; ComponentLink28Description: http://sigma.octopart.com:80/15645378/rohs_certificate/Molex-39-30-1060.pdf?src-supplier=Compliance+Statements; ComponentLink29URL: http://sigma.octopart.com:80/conflict_mineral_statement/Molex-company-72.pdf?src-supplier=Compliance+Statements; ComponentLink29Description: http://sigma.octopart.com:80/conflict_mineral_statement/Molex-company-72.pdf?src-supplier=Compliance+Statements; ComponentLink30URL: http://sigma.octopart.com:80/rohs_statement/Molex-company-73.pdf?src-supplier=Compliance+Statements; ComponentLink30Description: http://sigma.octopart.com:80/rohs_statement/Molex-company-73.pdf?src-supplier=Compliance+Statements; ComponentLink31URL: http://sigma.octopart.com:80/reach_statement/Molex-company-74.pdf?src-supplier=Compliance+Statements; ComponentLink31Description: http://sigma.octopart.com:80/reach_statement/Molex-company-74.pdf?src-supplier=Compliance+Statements
footprint 39301060
pins: 1, 2, 3, 4, 5, 6